# Altium footprint library Diodes$.PcbLib: 39 footprints (part 2 of 3)
Each footprint in its own frame and in the unit in brackets; x right, y up, seen from the top. Pads: shape width x height; smd on the part's side, far side on the other; paste and mask are expansions set on the pad; w line width, h text height; cw(c..) or ccw(c..) is an arc to the next point about the centre after c.
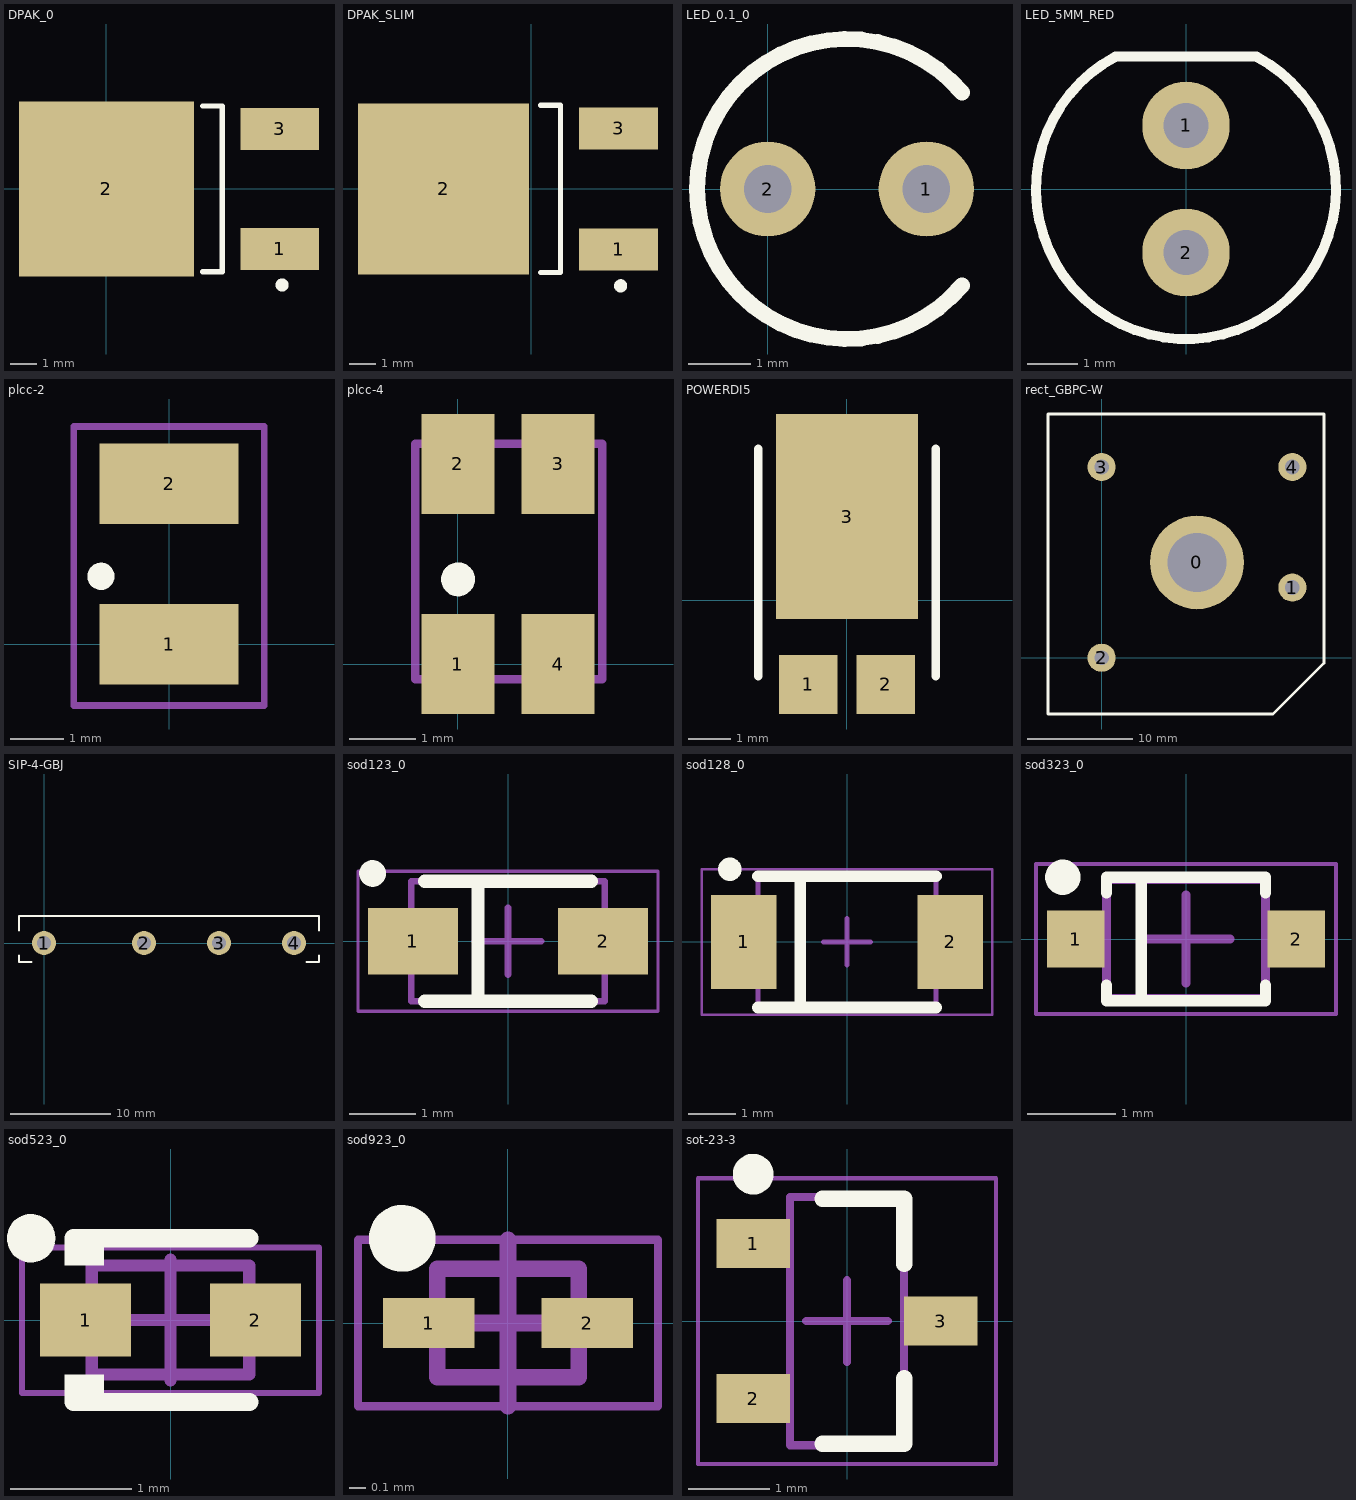
[diagram p1: the footprints below, top view; thin cyan lines are the x and y axes]

## DPAK_0 [mm] "DPAK"
pads (3):
  rect 3x1.6 smd: 1(6.65,-2.3) 3(6.65,2.3)
  rect 6.7x6.7 smd: 2(0,0)
Top Overlay:
  circle w0.25: c6.731,-3.683 r0.125
  lines w0.2: 3.683,-3.175 4.445,-3.175 4.445,3.175 3.683,3.175

## DPAK_SLIM [mm] "DPAK"
pads (3):
  rect 3x1.6 smd: 1(3.325,-2.3) 3(3.325,2.3)
  rect 6.5x6.5 smd: 2(-3.325,0)
Top Overlay:
  circle w0.25: c3.406,-3.683 r0.125
  lines w0.2: 0.358,-3.175 1.12,-3.175 1.12,3.175 0.358,3.175
3D body: height 1.3, standoff 0, extent -5.475,-3.1 1.125,3.1

## LED_0.1_0 [mil] "LED, Dual Lead, 0.1\" Spacing"
pads (2):
  round 60 hole 30: 1(100,0) 2(0,0)
Top Overlay:
  lines w10: 122.38,-60.74 cw(c50,0) 122.38,60.74

## LED_5MM_RED [mm]
pads (2):
  round 1.75 hole 0.9 unplated: 1(0,1.27) 2(0,-1.27)
Top Overlay:
  lines w0.2: -1.408,2.649 ccw(c0,0) 1.408,2.649 -1.408,2.649
3D body "LED_5mm_red.SLDPRT": height 8.75, standoff -3.45, extent -3,-3 3,2.7

## PCBComponent_1 [mm]

## plcc-2 [mm]
pads (2):
  rect 2.6x1.5 smd: 1(0,0) 2(0,3)
Top Overlay:
  circle w0.254: c-1.27,1.27 r0.127
Mechanical 1:
  lines w0.127: -1.778,-1.143 -1.778,4.064 1.778,4.064 1.778,-1.143 -1.778,-1.143

## plcc-4 [mm]
pads (4):
  rect 1.1x1.5 smd: 1(0,0) 2(0,3) 3(1.5,3) 4(1.5,0)
Top Overlay:
  circle w0.254: c0,1.27 r0.127
Mechanical 1:
  lines w0.127: -0.638,-0.226 -0.638,3.302 2.162,3.302 2.162,-0.226 -0.638,-0.226
3D body "PLCC-4-LED.SLDPRT": height 1.9, standoff 0, extent -0.638,-0.226 2.162,3.274

## POWERDI5 [mm]
pads (3):
  rect 1.39x1.4 smd mask+0.05: 1(-0.92,-1.99) 2(0.92,-1.99)
  rect 3.36x4.86 smd mask+0.05: 3(0,1.99)
Top Overlay:
  lines w0.2: -2.1,-1.8 -2.1,3.6 ; 2.1,-1.8 2.1,3.6
3D body: height 0.38, standoff 0, extent 0.47,-2.35 1.37,-1.8
3D body: height 0.38, standoff 0, extent -1.37,-2.35 -0.47,-1.8
3D body: height 0.38, standoff 0, extent -0.9,3.6 0.9,4.15
3D body: height 1.1, standoff 0, extent -2,-1.8 2,3.6

## rect_GBPC-W [mil]
pads (5):
  round 350 hole 220: 0(356,356)
  round 105 hole 55: 1(712,262) 2(0,0) 3(0,712) 4(712,712)
Top Overlay:
  lines w10: -200,-210 -200,910 830,910 830,-20 640,-210 -200,-210
3D body: height 300, standoff 0, extent -200,-210 830,910

## SIP-4-GBJ [mm] "4-Pin Single Inline Package, GBJ"
pads (4):
  round 2.4 hole 1.4: 1(0,0) 2(10,0) 3(17.5,0) 4(25,0)
Top Overlay:
  lines w0.2: -2.5,-1.25 -2.5,-1.9 -1.25,-1.9 ; -2.5,1.25 -2.5,2.7 27.5,2.7 27.5,1.25 ; 26.25,-1.9 27.5,-1.9 27.5,-1.25
3D body "GBJ.SLDPRT": height 24, standoff -13.5, extent -2.5,-1.9 27.5,2.7

## sod123_0 [mm] "SOD123, 1.65mm x 2.70mm"
height 98
pads (2):
  rect 1.35x1 smd: 1(-1.425,0) 2(1.425,0)
Top Overlay:
  circle w0.2: c-2.032,1.016 r0.1
  lines w0.2: -1.25,-0.9 1.25,-0.9 ; -1.25,0.9 1.25,0.9 ; -0.45,-0.9 -0.45,0.9
Mechanical 13:
  lines w0.1: -1.45,-0.9 -1.45,0.9 1.45,0.9 1.45,-0.9 -1.45,-0.9
Mechanical 15:
  lines w0.05: -2.25,-1.05 -2.25,1.05 2.25,1.05 2.25,-1.05 -2.25,-1.05
  lines w0.1: -0.5,0 0.5,0 ; 0,-0.5 0,0.5
3D body: height 1, standoff 0, extent -1.45,-0.9 1.45,0.9

## sod128_0 [mm] "SOD128"
pads (2):
  rect 1.4x2 smd: 1(-2.2,0) 2(2.2,0)
Top Overlay:
  circle w0.25: c-2.5,1.55 r0.125
  lines w0.25: -1.9,-1.4 1.9,-1.4 ; -1.9,1.4 1.9,1.4 ; -1,-1.4 -1,1.4
Mechanical 13:
  lines w0.1: -1.9,-1.35 1.9,-1.35 1.9,1.35 -1.9,1.35 -1.9,-1.35
Mechanical 15:
  lines w0.05: -3.1,-1.55 3.1,-1.55 3.1,1.55 -3.1,1.55 -3.1,-1.55
  lines w0.1: -0.5,0 0.5,0 ; 0,-0.5 0,0.5
3D body: height 0.2, standoff 0, extent -2.4,-0.75 -1.9,0.75
3D body: height 1, standoff 0, extent -1.9,-1.35 1.9,1.35
3D body: height 0.2, standoff 0, extent 1.9,-0.75 2.4,0.75

## sod323_0 [mm] "SOD-323, 1.25mm x 1.7mm"
height 1
pads (2):
  rect 0.65x0.65 smd: 1(-1.25,0) 2(1.25,0)
Top Overlay:
  circle w0.2: c-1.397,0.7 r0.1
  lines w0.127: -0.9,-0.525 -0.9,-0.7 0.9,-0.7 0.9,-0.525 ; -0.9,0.525 -0.9,0.7 0.9,0.7 0.9,0.525 ; -0.508,-0.7 -0.508,0.7
Mechanical 13:
  lines w0.1: -0.9,-0.675 0.9,-0.675 0.9,0.675 -0.9,0.675 -0.9,-0.675
Mechanical 15:
  lines w0.05: -1.7,-0.85 1.7,-0.85 1.7,0.85 -1.7,0.85 -1.7,-0.85
  lines w0.1: -0.5,0 0.5,0 ; 0,-0.5 0,0.5
3D body: height 1, standoff 0, extent -0.9,-0.675 0.9,0.675

## sod523_0 [mm] "SOD523, 0.80mm x 1.20mm"
height 0.7
pads (2):
  rect 0.75x0.6 smd: 1(-0.7,0) 2(0.7,0)
Top Overlay:
  circle w0.2: c-1.15,0.675 r0.1
  rectangle: -0.875,0.45 -0.55,0.675
  rectangle: -0.875,-0.675 -0.55,-0.45
  lines w0.15: -0.8,-0.675 0.65,-0.675 ; -0.8,0.675 0.65,0.675
Mechanical 13:
  lines w0.1: -0.65,-0.45 0.65,-0.45 0.65,0.45 -0.65,0.45 -0.65,-0.45
Mechanical 15:
  lines w0.05: -1.225,-0.6 1.225,-0.6 1.225,0.6 -1.225,0.6 -1.225,-0.6
  lines w0.1: -0.5,0 0.5,0 ; 0,-0.5 0,0.5
3D body: height 0.7, standoff 0, extent -0.65,-0.45 0.65,0.45

## sod923_0 [mm] "SOD923, 0.60mm x 0.80mm"
height 0.4
pads (2):
  rect 0.55x0.3 smd: 1(-0.475,0) 2(0.475,0)
Top Overlay:
  circle w0.2: c-0.635,0.508 r0.1
Mechanical 13:
  lines w0.1: -0.425,-0.325 -0.425,0.325 0.425,0.325 0.425,-0.325 -0.425,-0.325
Mechanical 15:
  lines w0.05: -0.9,-0.5 -0.9,0.5 0.9,0.5 0.9,-0.5 -0.9,-0.5
  lines w0.1: -0.5,0 0.5,0 ; 0,-0.5 0,0.5
3D body: height 0.4, standoff 0, extent -0.425,-0.325 0.425,0.325

## sot-23-3 [mm] "SOT-23-3 package"
height 1.1
pads (3):
  rect 0.9x0.6 smd: 1(-1.15,0.95) 2(-1.15,-0.95) 3(1.15,0)
Top Overlay:
  circle w0.25: c-1.15,1.8 r0.125
  lines w0.2: -0.3,-1.5 0.7,-1.5 0.7,-0.7 ; -0.3,1.5 0.7,1.5 0.7,0.7
Mechanical 13:
  lines w0.1: -0.7,-1.52 -0.7,1.52 0.7,1.52 0.7,-1.52 -0.7,-1.52
Mechanical 15:
  lines w0.05: -1.825,-1.75 -1.825,1.75 1.825,1.75 1.825,-1.75 -1.825,-1.75
  lines w0.1: -0.5,0 0.5,0 ; 0,-0.5 0,0.5
3D body "SOT23-3.stp": height 1.2, standoff 0.02, extent -1.418,-1.5 1.418,1.5